# Altium schematic symbol library Schlib1.SchLib: 17 symbols
Pins are listed as number, name and electrical type; pins without a type are passive.

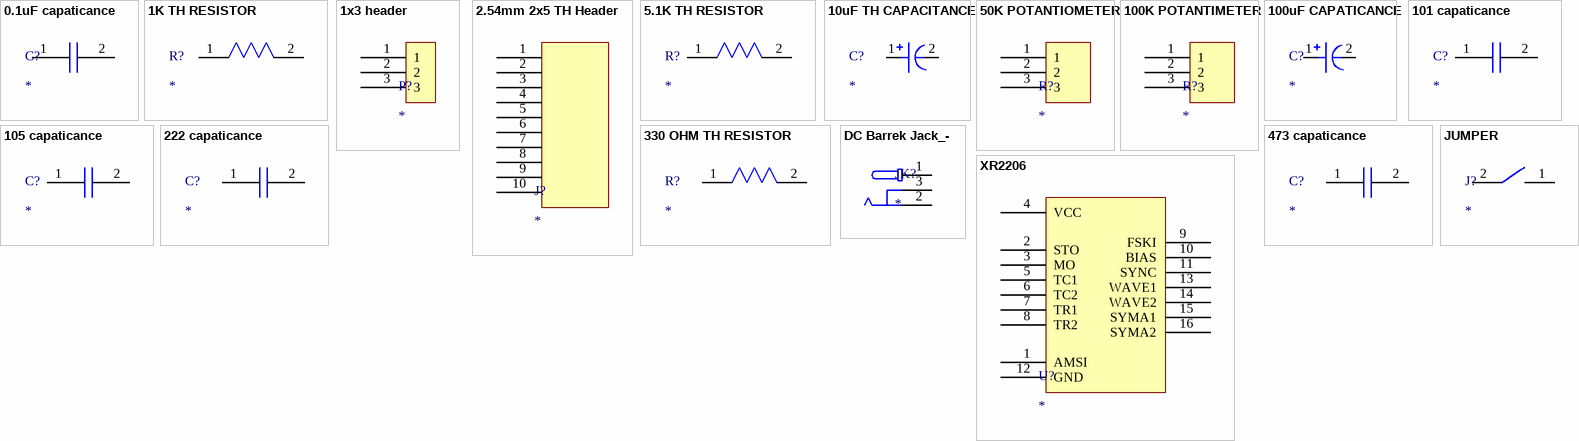
[diagram p0: symbols 0.1uF capaticance to XR2206]

## 0.1uF capaticance
designator C?
footprint TH CAPACITOR
pins: 1, 2

## 1K TH RESISTOR
designator R?
footprint TH RESISTOR
pins: 1, 2

## 1x3 header
designator P?
footprint 1x3 header - duplicate
pins: 1, 2, 3

## 2.54mm 2x5 TH Header
designator J?
2.54mm 2X3 TH Header
footprint 2x5 HEADER
pins: 1, 2, 3, 4, 5, 6, 7, 8, 9, 10

## 5.1K TH RESISTOR
designator R?
footprint TH RESISTOR
pins: 1, 2

## 10uF TH CAPACITANCE
designator C?
footprint 10uf capacitance
pins: 1, 2

## 50K POTANTIOMETER
designator R?
footprint POTANTIOMETER
pins: 1, 2, 3

## 100K POTANTIMETER
designator R?
footprint POTANTIOMETER
pins: 1, 2, 3

## 100uF CAPATICANCE
designator C?
footprint EEUFR1V101B (100uF CAPATAICANCE)
pins: 1, 2

## 101 capaticance
designator C?
footprint TH CAPACITOR
pins: 1, 2

## 105 capaticance
designator C?
footprint TH CAPACITOR
pins: 1, 2

## 222 capaticance
designator C?
footprint TH CAPACITOR
pins: 1, 2

## 330 OHM TH RESISTOR
designator R?
footprint TH RESISTOR
pins: 1, 2

## 473 capaticance
designator C?
footprint TH CAPACITOR
pins: 1, 2

## DC Barrek Jack_-
designator JK?
Power Barrel Connector Jack 2.10mm ID _0.083_, 5.50mm OD _0.217_ Through Hole, Right Angle; MF: MPD; MP: EJ508A; Package: Non-Standard MPD; Value: *; SnapEDA_Link: https://www.snapeda.com/parts/EJ508A/MPD%20%28Memory%20Protection%20Devices%29/view-part/474399/?ref=snap; Price: None; Availability: Unavailable
footprint DC BARREL JACK
pins: 1, 2, 3

## JUMPER
designator J?
footprint JUMPER
pins: 1, 2

## XR2206
designator U?
footprint XR2206
pins: 1 AMSI, 2 STO, 3 MO, 4 VCC, 5 TC1, 6 TC2, 7 TR1, 8 TR2, 9 FSKI, 10 BIAS, 11 SYNC, 12 GND, 13 WAVE1, 14 WAVE2, 15 SYMA1, 16 SYMA2